# EAGLE library part GENERIC-SOIC8 (library SparkFun-Retired)
A placeholder for generic narrow & wide SOIC8 foorptints - used on the DIP adapter board. Has strange reference to IC-10141, a Seven Band Graphic Equalizer Display Filter SOIC-8 VFP: IC-10141
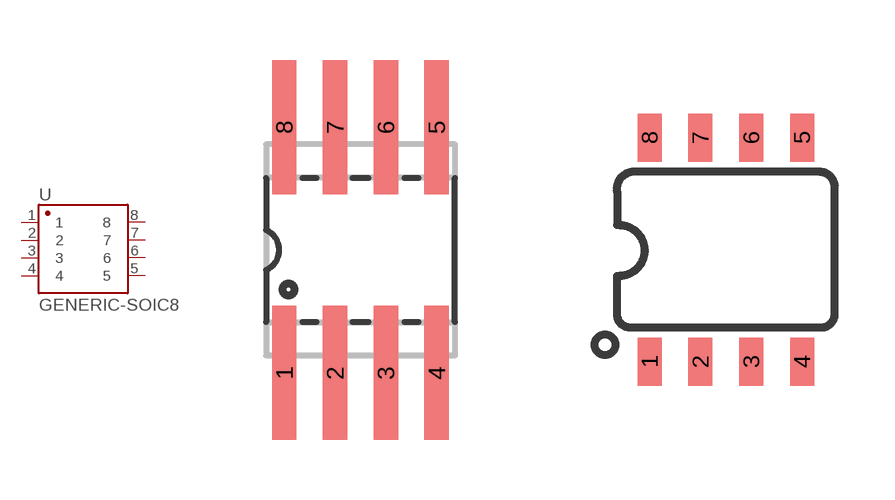
[diagram p56: symbol with the pads of SO08-UNIVERSAL; footprints SO08-UNIVERSAL, SO08]

Designator prefix U

## GENERIC-SOIC8  [SO08-UNIVERSAL]
1  1
2  2
3  3
4  4
5  5
6  6
7  7
8  8

## GENERIC-SOIC8MSGEQ7N-FILTER (PROD_ID: IC-10141)  [SO08]
Pads as for SO08-UNIVERSAL

## Footprint SO08-UNIVERSAL (pad centres in mm)
SOIC-08 footprint wth long lands. To fit both narrow and wide SOICs - for SOIC-to-DIP adapter board. Not recommended if you're trying to fit a specific chip.
smd 0.61 x 3.353: 1 -1.905,-3.073; 2 -0.635,-3.073; 3 0.635,-3.073; 4 1.905,-3.073; 5 1.905,3.073; 6 0.635,3.073; 7 -0.635,3.073; 8 -1.905,3.073

## Footprint SO08 (pad centres in mm)
SOIC, 0.15 inch width
smd 0.6 x 1.2: 1 -1.905,-2.8; 2 -0.635,-2.8; 3 0.635,-2.8; 4 1.905,-2.8; 5 1.905,2.8; 6 0.635,2.8; 7 -0.635,2.8; 8 -1.905,2.8